# Altium schematic symbol library SCH - POWER - SWITCHMODE - TI TPS56637RPA.SchLib: 1 symbol
Pins are listed as number, name and electrical type; pins without a type are passive.

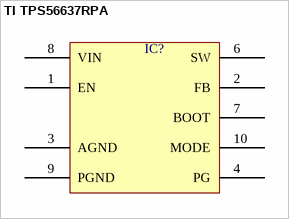
[diagram p0: symbol TI TPS56637RPA]

## TI TPS56637RPA
designator IC?  (value not drawn)
pins: 1 EN, 2 FB, 3 AGND, 4 PG, 6 SW, 7 BOOT, 8 VIN, 9 PGND, 10 MODE